# Altium schematic symbol library CO400_0037-0.SchLib: 1 symbol
Pins are listed as number, name and electrical type; pins without a type are passive.

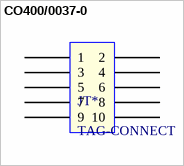
[diagram p0: symbol CO400/0037-0]

## CO400/0037-0
designator JT*, comment TAG-CONNECT
Tag-Connect TC2050-IDC-FP
pins: 1, 2, 3, 4, 5, 6, 7, 8, 9, 10